# Altium schematic symbol library AD8218BRMZ-R7.SchLib: 1 symbol
Pins are listed as number, name and electrical type; pins without a type are passive.

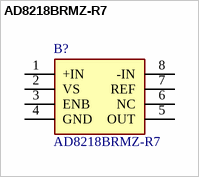
[diagram p0: symbol AD8218BRMZ-R7]

## AD8218BRMZ-R7
designator B?
Current Sense Amplifiers ZeroDrift BiDirectional Current SenseAmp; Manufacturer_Name: Analog Devices; Geometry.Height: 1.1mm; Mouser Part Number: 584-AD8218BRMZ-R7; Mouser Price/Stock: https://www.mouser.co.uk/ProductDetail/Analog-Devices/AD8218BRMZ-R7?qs=%2FtpEQrCGXCz70zc1CjCIWQ%3D%3D; Manufacturer_Part_Number: AD8218BRMZ-R7; Datasheet Link: https://www.analog.com/media/en/technical-documentation/data-sheets/AD8218.pdf
footprint SOP65P490X110-8N
pins: 1 +IN, 2 VS, 3 ENB, 4 GND, 5 OUT, 6 NC, 7 REF, 8 -IN